# Altium schematic symbol library SN74LVC1G126DBVR.SchLib: 1 symbol
Pins are listed as number, name and electrical type; pins without a type are passive.

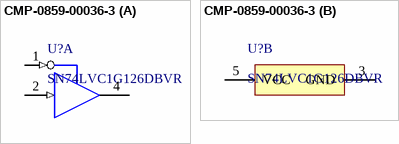
[diagram p0: symbol CMP-0859-00036-3]

## CMP-0859-00036-3
designator U?, comment SN74LVC1G126DBVR
Single Bus Buffer Gate With 3-State Outputs, DBV0005A, LARGE T&R; Manufacturer: Texas Instruments; Bits(#): 1; Sub-Family: Non-Inverting Buffer/Driver; F @ Nom Voltage(Max)(Mhz): 150; VCC(Min)(V): 1.65; Input Type: CMOS/TTL; Voltage(Nom)(V): 1.8,2.5,3.3,5; Output Type: CMOS; ICC @ Nom Voltage(Max)(mA): 0.01; Technology Family: LVC; Logic: True; VCC(Max)(V): 5.5; Schmitt Trigger: No; 3-State Output: Yes; tpd @ Nom Voltage(Max)(ns): 8,5.5,4.5,4; Rating: Catalog; Output Drive (IOL/IOH)(Max)(mA): 32/-32; DatasheetVersion: SCES224R; Operating Temperature Range(C): -40 to 125,-40 to 85; PackageReference: DBV0005A; Generic Part Number: SN74LVC1G126
footprint DBV0005A_M (SOT23, 5-Leads, Body 3.05x1.75mm, Pitch 0.95mm, IPC Low Density)
footprint DBV0005A_L (SOT23, 5-Leads, Body 3.05x1.75mm, Pitch 0.95mm, IPC High Density)
footprint DBV0005A_N (SOT23, 5-Leads, Body 3.05x1.75mm, Pitch 0.95mm, IPC Medium Density)
part A pins: 1 OE (in), 2 A (in), 4 Y (hiz)
part B pins: 3 GND (power), 5 VCC (power)